# Altium integrated library Linx Technologies Antenna.IntLib: 38 symbols
Pins are listed as number, name and electrical type; pins without a type are passive.

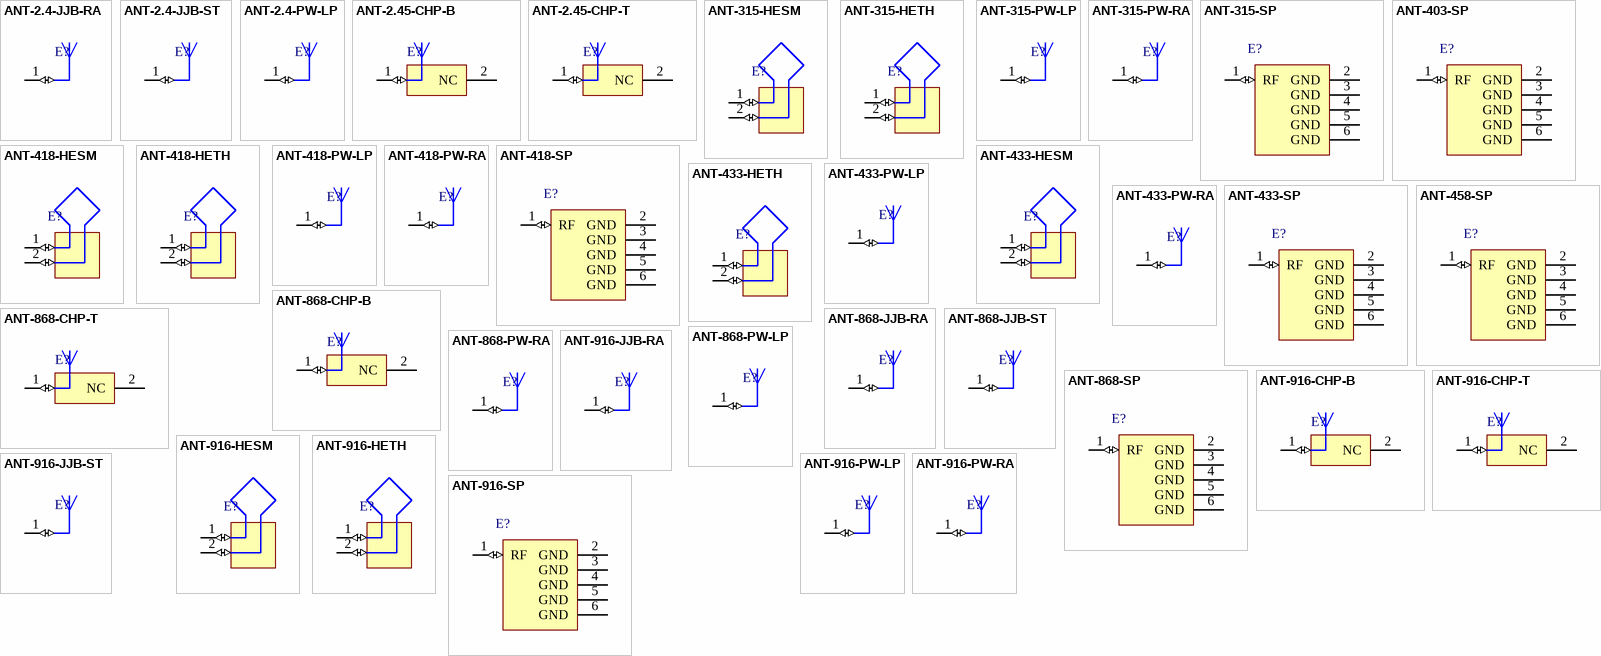
[diagram p0: symbols ANT-2.4-JJB-RA to ANT-916-SP]

## ANT-2.4-JJB-RA
designator E?
Embeddable 1/4-wave Monopole Antenna, JJB Series, 2.4GHz, 7mm Dia. Package, Right-Angle; Note1: No ground planes or traces under the antenna; DatasheetVersion: 22/07/2008; PackageVersion: 22/07/2008; PackageReference: ANT-XXX-JJB-RA; PackageDescription: Antenna, Monopole, JJB Series, Thru-Hole, Right-Angle, 7.0 x 9.0 mm (Dia.xH typ); ComponentLink1Description: Manufacturer URL; ComponentLink1URL: http://www.linxtechnologies.com/; ComponentLink2Description: Datasheet; ComponentLink2URL: http://www.antennafactor.com/documents/ANT-2.4-JJB-xx_Data_Sheet.pdf
footprint ANT-XXX-JJB-RA (Antenna, 1-Lead, Thru-Hole, Right-Angle, Body 7.0x9.0mm (Dia.xH typ))
pins: 1 FEED (io)

## ANT-2.4-JJB-ST
designator E?
Embeddable 1/4-wave Monopole Antenna, JJB Series, 2.4GHz, 7mm Dia. Package, Straight; DatasheetVersion: 22/07/2008; PackageVersion: 22/07/2008; PackageReference: ANT-XXX-JJB-ST; PackageDescription: Antenna, Monopole, JJB Series, Thru-Hole, Straight, 7.0 x 9.0 mm (Dia.xH typ); ComponentLink1Description: Manufacturer URL; ComponentLink1URL: http://www.linxtechnologies.com/; ComponentLink2Description: Datasheet; ComponentLink2URL: http://www.antennafactor.com/documents/ANT-2.4-JJB-xx_Data_Sheet.pdf
footprint ANT-XXX-JJB-ST (Antenna, 1-Lead, Thru-Hole, Straight, Body 7.0x9.0mm (Dia.xH typ))
pins: 1 FEED (io)

## ANT-2.4-PW-LP
designator E?
Reduced Height Permanent Mount 1/4-wave Monopole Antenna, LP Series, 2.4GHz, Screw-mount; DatasheetVersion: 22/07/2008; PackageVersion: 22/07/2008; PackageReference: ANT-XXX-PW-LP; PackageDescription: Antenna, LP Series, Thru-Hole, Screw-mount, 10.4 x 50.5 mm (Dia.xH typ); ComponentLink1Description: Manufacturer URL; ComponentLink1URL: http://www.linxtechnologies.com/; ComponentLink2Description: Datasheet; ComponentLink2URL: http://www.antennafactor.com/documents/ANT-2.4-PW-LP_Data_Sheet.pdf
footprint ANT-XXX-PW-LP (Antenna, 1-Lead, Thru-Hole, Screw-mount, 10.4x50.5mm (Dia.xH typ))
pins: 1 FEED (io)

## ANT-2.45-CHP-B
designator E?
1/4-wave Monopole Ultra-Compact Chip Antenna, CHP Series, 2.4GHz, Bulk; Note1: No ground planes or traces under the antenna; PCB_Layout: Complies with manufacturer's recommendation.; Note2: Pin 1 is feed terminal, Pin 2 is for physical support only.; DatasheetVersion: 14/01/2009; PackageVersion: 14/01/2009; PackageReference: ANT-2.4-CHP; PackageDescription: SMD Ceramic Antenna, CHP Series, 2.45MHz, 2-Leads, 6.5 x 2.2 x 1.0 mm Body; ComponentLink1Description: Manufacturer URL; ComponentLink1URL: http://www.linxtechnologies.com/; ComponentLink2Description: Datasheet; ComponentLink2URL: http://www.antennafactor.com/documents/ANT-xxx-CHP-x_Data_Guide.pdf
footprint ANT-2.4-CHP (SM Antenna, 2-Lead, Body 6.5x2.2x1.0mm)
pins: 1 FEED (io), 2 NC

## ANT-2.45-CHP-T
designator E?
1/4-wave Monopole Ultra-Compact Chip Antenna, CHP Series, 2.4GHz, Tape and Reel; Note1: No ground planes or traces under the antenna; PCB_Layout: Complies with manufacturer's recommendation.; Note2: Pin 1 is feed terminal, Pin 2 is for physical support only.; DatasheetVersion: 14/01/2009; PackageVersion: 14/01/2009; PackageReference: ANT-2.4-CHP; PackageDescription: SMD Ceramic Antenna, CHP Series, 2.45MHz, 2-Leads, 6.5 x 2.2 x 1.0 mm Body; ComponentLink1Description: Manufacturer URL; ComponentLink1URL: http://www.linxtechnologies.com/; ComponentLink2Description: Datasheet; ComponentLink2URL: http://www.antennafactor.com/documents/ANT-xxx-CHP-x_Data_Guide.pdf
footprint ANT-2.4-CHP (SM Antenna, 2-Lead, Body 6.5x2.2x1.0mm)
pins: 1 FEED (io), 2 NC

## ANT-315-HESM
designator E?
Embeddable 1/4-wave Monopole Antenna, HE Series, 315MHz, SM; DatasheetVersion: 2/02/2002; PackageVersion: 2/02/2002; PackageReference: ANT-xxx-HESM; PackageDescription: Helical Antenna, HE Series, SM, 2-Lead, 1.5" x 0.35" Body; ComponentLink1Description: Manufacturer URL; ComponentLink1URL: http://www.linxtechnologies.com/; ComponentLink2Description: Datasheet; ComponentLink2URL: http://www.antennafactor.com/documents/ANT-315-HESM_Data_Sheet.pdf
footprint ANT-xxx-HESM (Antenna, Helical, 2-Lead, SM, Body 1.5"x0.35")
pins: 1 High Band Feed (io) "4900 - 5900 MHz", 2 Low Band Feed (io) "2400 - 2500 MHz"

## ANT-315-HETH
designator E?
Embeddable 1/4-wave Monopole Antenna, HE Series, 315MHz, Thru-Hole; DatasheetVersion: 2/02/2002; PackageVersion: 2/02/2002; PackageReference: ANT-xxx-HETH; PackageDescription: Helical Antenna, HE Series, Thru-Hole, 2-Lead, 1.5" x 0.35" Body; ComponentLink1Description: Manufacturer URL; ComponentLink1URL: http://www.linxtechnologies.com/; ComponentLink2Description: Datasheet; ComponentLink2URL: http://www.antennafactor.com/documents/ANT-315-HETH_Data_Sheet.pdf
footprint ANT-xxx-HETH (Antenna, Helical, 2-Lead, Thru-Hole, Body 1.5"x0.35")
pins: 1 High Band Feed (io) "4900 - 5900 MHz", 2 Low Band Feed (io) "2400 - 2500 MHz"

## ANT-315-PW-LP
designator E?
Reduced Height Permanent Mount 1/4-wave Monopole Antenna, LP Series, 315MHz, Screw-mount; DatasheetVersion: 22/07/2008; PackageVersion: 22/07/2008; PackageReference: ANT-XXX-PW-LP; PackageDescription: Antenna, LP Series, Thru-Hole, Screw-mount, 10.4 x 50.5 mm (Dia.xH typ); ComponentLink1Description: Manufacturer URL; ComponentLink1URL: http://www.linxtechnologies.com/; ComponentLink2Description: Datasheet; ComponentLink2URL: http://www.antennafactor.com/documents/ANT-315-PW-LP_Data_Sheet.pdf
footprint ANT-XXX-PW-LP (Antenna, 1-Lead, Thru-Hole, Screw-mount, 10.4x50.5mm (Dia.xH typ))
pins: 1 FEED (io)

## ANT-315-PW-RA
designator E?
Articulating Permanent Mount 1/4-wave Monopole Antenna, RA Series, 315MHz, Screw-mount; DatasheetVersion: 22/07/2008; PackageVersion: 22/07/2008; PackageReference: ANT-XXX-PW-RA; PackageDescription: Antenna, RA Series, Thru-Hole, Articulating base, Screw-mount, 7.0 x 101.0 mm (Dia.xH typ); ComponentLink1Description: Manufacturer URL; ComponentLink1URL: http://www.linxtechnologies.com/; ComponentLink2Description: Datasheet; ComponentLink2URL: http://www.antennafactor.com/documents/ANT-315-PW-RA_Data_Sheet.pdf
footprint ANT-XXX-PW-RA (Antenna, 1-Lead, Thru-Hole, Articulating base, Screw-mount, 7.0x101.0mm (Dia.xH typ))
pins: 1 FEED (io)

## ANT-315-SP
designator E?
Grounded Line 1/4-wave Monopole Antenna, SP Series "The Splatch", 315MHz, SM; Note1: No ground planes or traces under the antenna; DatasheetVersion: 11/11/2008; PackageVersion: 11/11/2008; PackageReference: ANT-XXX-SP; PackageDescription: Antenna, Splatch, SP Series, 6-Lead, SM, 27.94 x 13.7 x 1.5 mm Body; ComponentLink1Description: Manufacturer URL; ComponentLink1URL: http://www.linxtechnologies.com/; ComponentLink2Description: Datasheet; ComponentLink2URL: http://www.antennafactor.com/documents/ANT-315-SP_Data_Sheet.pdf
footprint ANT-XXX-SP (Antenna, 6-Lead, SM, Body 27.94x13.7x1.5mm)
pins: 1 RF (io), 2 GND (power), 3 GND (power), 4 GND (power), 5 GND (power), 6 GND (power)

## ANT-403-SP
designator E?
Grounded Line 1/4-wave Monopole Antenna, SP Series "The Splatch", 403MHz, SM; Note1: No ground planes or traces under the antenna; DatasheetVersion: 11/11/2008; PackageVersion: 11/11/2008; PackageReference: ANT-XXX-SP; PackageDescription: Antenna, Splatch, SP Series, 6-Lead, SM, 27.94 x 13.7 x 1.5 mm Body; ComponentLink1Description: Manufacturer URL; ComponentLink1URL: http://www.linxtechnologies.com/; ComponentLink2Description: Datasheet; ComponentLink2URL: http://www.antennafactor.com/documents/ANT-403-SP_Data_Sheet.pdf
footprint ANT-XXX-SP (Antenna, 6-Lead, SM, Body 27.94x13.7x1.5mm)
pins: 1 RF (io), 2 GND (power), 3 GND (power), 4 GND (power), 5 GND (power), 6 GND (power)

## ANT-418-HESM
designator E?
Embeddable 1/4-wave Monopole Antenna, HE Series, 418MHz, SM; DatasheetVersion: 2/02/2002; PackageVersion: 2/02/2002; PackageReference: ANT-xxx-HESM; PackageDescription: Helical Antenna, HE Series, SM, 2-Lead, 1.5" x 0.35" Body; ComponentLink1Description: Manufacturer URL; ComponentLink1URL: http://www.linxtechnologies.com/; ComponentLink2Description: Datasheet; ComponentLink2URL: http://www.antennafactor.com/documents/ANT-418-HESM_Data_Sheet.pdf
footprint ANT-xxx-HESM (Antenna, Helical, 2-Lead, SM, Body 1.5"x0.35")
pins: 1 High Band Feed (io) "4900 - 5900 MHz", 2 Low Band Feed (io) "2400 - 2500 MHz"

## ANT-418-HETH
designator E?
Embeddable 1/4-wave Monopole Antenna, HE Series, 418MHz, Thru-Hole; DatasheetVersion: 2/02/2002; PackageVersion: 2/02/2002; PackageReference: ANT-xxx-HETH; PackageDescription: Helical Antenna, HE Series, Thru-Hole, 2-Lead, 1.5" x 0.35" Body; ComponentLink1Description: Manufacturer URL; ComponentLink1URL: http://www.linxtechnologies.com/; ComponentLink2Description: Datasheet; ComponentLink2URL: http://www.antennafactor.com/documents/ANT-418-HETH_Data_Sheet.pdf
footprint ANT-xxx-HETH (Antenna, Helical, 2-Lead, Thru-Hole, Body 1.5"x0.35")
pins: 1 High Band Feed (io) "4900 - 5900 MHz", 2 Low Band Feed (io) "2400 - 2500 MHz"

## ANT-418-PW-LP
designator E?
Reduced Height Permanent Mount 1/4-wave Monopole Antenna, LP Series, 418MHz, Screw-mount; DatasheetVersion: 22/07/2008; PackageVersion: 22/07/2008; PackageReference: ANT-XXX-PW-LP; PackageDescription: Antenna, LP Series, Thru-Hole, Screw-mount, 10.4 x 50.5 mm (Dia.xH typ); ComponentLink1Description: Manufacturer URL; ComponentLink1URL: http://www.linxtechnologies.com/; ComponentLink2Description: Datasheet; ComponentLink2URL: http://www.antennafactor.com/documents/ANT-418-PW-LP_Data_Sheet.pdf
footprint ANT-XXX-PW-LP (Antenna, 1-Lead, Thru-Hole, Screw-mount, 10.4x50.5mm (Dia.xH typ))
pins: 1 FEED (io)

## ANT-418-PW-RA
designator E?
Articulating Permanent Mount 1/4-wave Monopole Antenna, RA Series, 418MHz, Screw-mount; DatasheetVersion: 22/07/2008; PackageVersion: 22/07/2008; PackageReference: ANT-XXX-PW-RA; PackageDescription: Antenna, RA Series, Thru-Hole, Articulating base, Screw-mount, 7.0 x 101.0 mm (Dia.xH typ); ComponentLink1Description: Manufacturer URL; ComponentLink1URL: http://www.linxtechnologies.com/; ComponentLink2Description: Datasheet; ComponentLink2URL: http://www.antennafactor.com/documents/ANT-418-PW-RA_Data_Sheet.pdf
footprint ANT-XXX-PW-RA (Antenna, 1-Lead, Thru-Hole, Articulating base, Screw-mount, 7.0x101.0mm (Dia.xH typ))
pins: 1 FEED (io)

## ANT-418-SP
designator E?
Grounded Line 1/4-wave Monopole Antenna, SP Series "The Splatch", 418MHz, SM; Note1: No ground planes or traces under the antenna; DatasheetVersion: 11/11/2008; PackageVersion: 11/11/2008; PackageReference: ANT-XXX-SP; PackageDescription: Antenna, Splatch, SP Series, 6-Lead, SM, 27.94 x 13.7 x 1.5 mm Body; ComponentLink1Description: Manufacturer URL; ComponentLink1URL: http://www.linxtechnologies.com/; ComponentLink2Description: Datasheet; ComponentLink2URL: http://www.antennafactor.com/documents/ANT-418-SP_Data_Sheet.pdf
footprint ANT-XXX-SP (Antenna, 6-Lead, SM, Body 27.94x13.7x1.5mm)
pins: 1 RF (io), 2 GND (power), 3 GND (power), 4 GND (power), 5 GND (power), 6 GND (power)

## ANT-433-HESM
designator E?
Embeddable 1/4-wave Monopole Antenna, HE Series, 433MHz, SM; DatasheetVersion: 2/02/2002; PackageVersion: 2/02/2002; PackageReference: ANT-xxx-HESM; PackageDescription: Helical Antenna, HE Series, SM, 2-Lead, 1.5" x 0.35" Body; ComponentLink1Description: Manufacturer URL; ComponentLink1URL: http://www.linxtechnologies.com/; ComponentLink2Description: Datasheet; ComponentLink2URL: http://www.antennafactor.com/documents/ANT-433-HESM_Data_Sheet.pdf
footprint ANT-xxx-HESM (Antenna, Helical, 2-Lead, SM, Body 1.5"x0.35")
pins: 1 High Band Feed (io) "4900 - 5900 MHz", 2 Low Band Feed (io) "2400 - 2500 MHz"

## ANT-433-HETH
designator E?
Embeddable 1/4-wave Monopole Antenna, HE Series, 433MHz, Thru-Hole; DatasheetVersion: 2/02/2002; PackageVersion: 2/02/2002; PackageReference: ANT-xxx-HETH; PackageDescription: Helical Antenna, HE Series, Thru-Hole, 2-Lead, 1.5" x 0.35" Body; ComponentLink1Description: Manufacturer URL; ComponentLink1URL: http://www.linxtechnologies.com/; ComponentLink2Description: Datasheet; ComponentLink2URL: http://www.antennafactor.com/documents/ANT-433-HETH_Data_Sheet.pdf
footprint ANT-xxx-HETH (Antenna, Helical, 2-Lead, Thru-Hole, Body 1.5"x0.35")
pins: 1 High Band Feed (io) "4900 - 5900 MHz", 2 Low Band Feed (io) "2400 - 2500 MHz"

## ANT-433-PW-LP
designator E?
Reduced Height Permanent Mount 1/4-wave Monopole Antenna, LP Series, 433MHz, Screw-mount; DatasheetVersion: 22/07/2008; PackageVersion: 22/07/2008; PackageReference: ANT-XXX-PW-LP; PackageDescription: Antenna, LP Series, Thru-Hole, Screw-mount, 10.4 x 50.5 mm (Dia.xH typ); ComponentLink1Description: Manufacturer URL; ComponentLink1URL: http://www.linxtechnologies.com/; ComponentLink2Description: Datasheet; ComponentLink2URL: http://www.antennafactor.com/documents/ANT-433-PW-LP_Data_Sheet.pdf
footprint ANT-XXX-PW-LP (Antenna, 1-Lead, Thru-Hole, Screw-mount, 10.4x50.5mm (Dia.xH typ))
pins: 1 FEED (io)

## ANT-433-PW-RA
designator E?
Articulating Permanent Mount 1/4-wave Monopole Antenna, RA Series, 433MHz, Screw-mount; DatasheetVersion: 22/07/2008; PackageVersion: 22/07/2008; PackageReference: ANT-XXX-PW-RA; PackageDescription: Antenna, RA Series, Thru-Hole, Articulating base, Screw-mount, 7.0 x 101.0 mm (Dia.xH typ); ComponentLink1Description: Manufacturer URL; ComponentLink1URL: http://www.linxtechnologies.com/; ComponentLink2Description: Datasheet; ComponentLink2URL: http://www.antennafactor.com/documents/ANT-433-PW-RA_Data_Sheet.pdf
footprint ANT-XXX-PW-RA (Antenna, 1-Lead, Thru-Hole, Articulating base, Screw-mount, 7.0x101.0mm (Dia.xH typ))
pins: 1 FEED (io)

## ANT-433-SP
designator E?
Grounded Line 1/4-wave Monopole Antenna, SP Series "The Splatch", 433MHz, SM; Note1: No ground planes or traces under the antenna; DatasheetVersion: 11/11/2008; PackageVersion: 11/11/2008; PackageReference: ANT-XXX-SP; PackageDescription: Antenna, Splatch, SP Series, 6-Lead, SM, 27.94 x 13.7 x 1.5 mm Body; ComponentLink1Description: Manufacturer URL; ComponentLink1URL: http://www.linxtechnologies.com/; ComponentLink2Description: Datasheet; ComponentLink2URL: http://www.antennafactor.com/documents/ANT-433-SP_Data_Sheet.pdf
footprint ANT-XXX-SP (Antenna, 6-Lead, SM, Body 27.94x13.7x1.5mm)
pins: 1 RF (io), 2 GND (power), 3 GND (power), 4 GND (power), 5 GND (power), 6 GND (power)

## ANT-458-SP
designator E?
Grounded Line 1/4-wave Monopole Antenna, SP Series "The Splatch", 458MHz, SM; Note1: No ground planes or traces under the antenna; DatasheetVersion: 11/11/2008; PackageVersion: 11/11/2008; PackageReference: ANT-XXX-SP; PackageDescription: Antenna, Splatch, SP Series, 6-Lead, SM, 27.94 x 13.7 x 1.5 mm Body; ComponentLink1Description: Manufacturer URL; ComponentLink1URL: http://www.linxtechnologies.com/; ComponentLink2Description: Datasheet; ComponentLink2URL: http://www.antennafactor.com/documents/ANT-458-SP_Data_Sheet.pdf
footprint ANT-XXX-SP (Antenna, 6-Lead, SM, Body 27.94x13.7x1.5mm)
pins: 1 RF (io), 2 GND (power), 3 GND (power), 4 GND (power), 5 GND (power), 6 GND (power)

## ANT-868-CHP-B
designator E?
1/4-wave Monopole Ultra-Compact Chip Antenna, CHP Series, 868MHz, Bulk; Note1: No ground planes or traces under the antenna; PCB_Layout: Complies with manufacturer's recommendation.; Note2: Pin 1 is feed terminal, Pin 2 is for physical support only.; DatasheetVersion: 14/01/2009; PackageVersion: 14/01/2009; PackageReference: ANT-868-916-CHP; PackageDescription: SMD Ceramic Antenna, CHP Series, 868/916MHz, 2-Leads, 16.0 x 3.0 x 1.7 mm Body; ComponentLink1Description: Manufacturer URL; ComponentLink1URL: http://www.linxtechnologies.com/; ComponentLink2Description: Datasheet; ComponentLink2URL: http://www.antennafactor.com/documents/ANT-xxx-CHP-x_Data_Guide.pdf
footprint ANT-868-916-CHP (SM Antenna, 2-Lead, Body 16.0x3.0x1.7mm)
pins: 1 FEED (io), 2 NC

## ANT-868-CHP-T
designator E?
1/4-wave Monopole Ultra-Compact Chip Antenna, CHP Series, 868MHz, Tape and Reel; Note1: No ground planes or traces under the antenna; PCB_Layout: Complies with manufacturer's recommendation.; Note2: Pin 1 is feed terminal, Pin 2 is for physical support only.; DatasheetVersion: 14/01/2009; PackageVersion: 14/01/2009; PackageReference: ANT-868-916-CHP; PackageDescription: SMD Ceramic Antenna, CHP Series, 868/916MHz, 2-Leads, 16.0 x 3.0 x 1.7 mm Body; ComponentLink1Description: Manufacturer URL; ComponentLink1URL: http://www.linxtechnologies.com/; ComponentLink2Description: Datasheet; ComponentLink2URL: http://www.antennafactor.com/documents/ANT-xxx-CHP-x_Data_Guide.pdf
footprint ANT-868-916-CHP (SM Antenna, 2-Lead, Body 16.0x3.0x1.7mm)
pins: 1 FEED (io), 2 NC

## ANT-868-JJB-RA
designator E?
Embeddable 1/4-wave Monopole Antenna, JJB Series, 868MHz, 7mm Dia. Package, Right-Angle; Note1: No ground planes or traces under the antenna; DatasheetVersion: 22/07/2008; PackageVersion: 22/07/2008; PackageReference: ANT-XXX-JJB-RA; PackageDescription: Antenna, Monopole, JJB Series, Thru-Hole, Right-Angle, 7.0 x 9.0 mm (Dia.xH typ); ComponentLink1Description: Manufacturer URL; ComponentLink1URL: http://www.linxtechnologies.com/; ComponentLink2Description: Datasheet; ComponentLink2URL: http://www.antennafactor.com/documents/ANT-868-JJB-xx_Data_Sheet.pdf
footprint ANT-XXX-JJB-RA (Antenna, 1-Lead, Thru-Hole, Right-Angle, Body 7.0x9.0mm (Dia.xH typ))
pins: 1 FEED (io)

## ANT-868-JJB-ST
designator E?
Embeddable 1/4-wave Monopole Antenna, JJB Series, 868MHz, 7mm Dia. Package, Straight; DatasheetVersion: 22/07/2008; PackageVersion: 22/07/2008; PackageReference: ANT-XXX-JJB-ST; PackageDescription: Antenna, Monopole, JJB Series, Thru-Hole, Straight, 7.0 x 9.0 mm (Dia.xH typ); ComponentLink1Description: Manufacturer URL; ComponentLink1URL: http://www.linxtechnologies.com/; ComponentLink2Description: Datasheet; ComponentLink2URL: http://www.antennafactor.com/documents/ANT-868-JJB-xx_Data_Sheet.pdf
footprint ANT-XXX-JJB-ST (Antenna, 1-Lead, Thru-Hole, Straight, Body 7.0x9.0mm (Dia.xH typ))
pins: 1 FEED (io)

## ANT-868-PW-LP
designator E?
Reduced Height Permanent Mount 1/4-wave Monopole Antenna, LP Series, 868MHz, Screw-mount; DatasheetVersion: 22/07/2008; PackageVersion: 22/07/2008; PackageReference: ANT-XXX-PW-LP; PackageDescription: Antenna, LP Series, Thru-Hole, Screw-mount, 10.4 x 50.5 mm (Dia.xH typ); ComponentLink1Description: Manufacturer URL; ComponentLink1URL: http://www.linxtechnologies.com/; ComponentLink2Description: Datasheet; ComponentLink2URL: http://www.antennafactor.com/documents/ANT-868-PW-LP_Data_Sheet.pdf
footprint ANT-XXX-PW-LP (Antenna, 1-Lead, Thru-Hole, Screw-mount, 10.4x50.5mm (Dia.xH typ))
pins: 1 FEED (io)

## ANT-868-PW-RA
designator E?
Articulating Permanent Mount 1/4-wave Monopole Antenna, RA Series, 868MHz, Screw-mount; DatasheetVersion: 22/07/2008; PackageVersion: 22/07/2008; PackageReference: ANT-868-PW-RA; PackageDescription: Antenna, RA Series, Thru-Hole, Articulating base, Screw-mount, 7.0 x 68.5 mm (Dia.xH typ); ComponentLink1Description: Manufacturer URL; ComponentLink1URL: http://www.linxtechnologies.com/; ComponentLink2Description: Datasheet; ComponentLink2URL: http://www.antennafactor.com/documents/ANT-868-PW-RA_Data_Sheet.pdf
footprint ANT-868-PW-RA (Antenna, 1-Lead, Thru-Hole, Articulating base, Screw-mount, 7.0x68.5mm (Dia.xH typ))
pins: 1 FEED (io)

## ANT-868-SP
designator E?
Grounded Line 1/4-wave Monopole Antenna, SP Series "The Splatch", 868MHz, SM; Note1: No ground planes or traces under the antenna; DatasheetVersion: 11/11/2008; PackageVersion: 11/11/2008; PackageReference: ANT-XXX-SP; PackageDescription: Antenna, Splatch, SP Series, 6-Lead, SM, 27.94 x 13.7 x 1.5 mm Body; ComponentLink1Description: Manufacturer URL; ComponentLink1URL: http://www.linxtechnologies.com/; ComponentLink2Description: Datasheet; ComponentLink2URL: http://www.antennafactor.com/documents/ANT-868-SP_Data_Sheet.pdf
footprint ANT-XXX-SP (Antenna, 6-Lead, SM, Body 27.94x13.7x1.5mm)
pins: 1 RF (io), 2 GND (power), 3 GND (power), 4 GND (power), 5 GND (power), 6 GND (power)

## ANT-916-CHP-B
designator E?
1/4-wave Monopole Ultra-Compact Chip Antenna, CHP Series, 916MHz, Bulk; Note1: No ground planes or traces under the antenna; PCB_Layout: Complies with manufacturer's recommendation.; Note2: Pin 1 is feed terminal, Pin 2 is for physical support only.; DatasheetVersion: 14/01/2009; PackageVersion: 14/01/2009; PackageReference: ANT-868-916-CHP; PackageDescription: SMD Ceramic Antenna, CHP Series, 868/916MHz, 2-Leads, 16.0 x 3.0 x 1.7 mm Body; ComponentLink1Description: Manufacturer URL; ComponentLink1URL: http://www.linxtechnologies.com/; ComponentLink2Description: Datasheet; ComponentLink2URL: http://www.antennafactor.com/documents/ANT-xxx-CHP-x_Data_Guide.pdf
footprint ANT-868-916-CHP (SM Antenna, 2-Lead, Body 16.0x3.0x1.7mm)
pins: 1 FEED (io), 2 NC

## ANT-916-CHP-T
designator E?
1/4-wave Monopole Ultra-Compact Chip Antenna, CHP Series, 916MHz, Tape and Reel; Note1: No ground planes or traces under the antenna; PCB_Layout: Complies with manufacturer's recommendation.; Note2: Pin 1 is feed terminal, Pin 2 is for physical support only.; DatasheetVersion: 14/01/2009; PackageVersion: 14/01/2009; PackageReference: ANT-868-916-CHP; PackageDescription: SMD Ceramic Antenna, CHP Series, 868/916MHz, 2-Leads, 16.0 x 3.0 x 1.7 mm Body; ComponentLink1Description: Manufacturer URL; ComponentLink1URL: http://www.linxtechnologies.com/; ComponentLink2Description: Datasheet; ComponentLink2URL: http://www.antennafactor.com/documents/ANT-xxx-CHP-x_Data_Guide.pdf
footprint ANT-868-916-CHP (SM Antenna, 2-Lead, Body 16.0x3.0x1.7mm)
pins: 1 FEED (io), 2 NC

## ANT-916-HESM
designator E?
Embeddable 1/4-wave Monopole Antenna, HE Series, 916MHz, SM; DatasheetVersion: 2/02/2002; PackageVersion: 2/02/2002; PackageReference: ANT-916-HESM; PackageDescription: Helical Antenna, HE Series, SM, 2-Lead, 1.0" x 0.35" Body; ComponentLink1Description: Manufacturer URL; ComponentLink1URL: http://www.linxtechnologies.com/; ComponentLink2Description: Datasheet; ComponentLink2URL: http://www.antennafactor.com/documents/ANT-916-HESM_Data_Sheet.pdf
footprint ANT-916-HESM (Antenna, Helical, 2-Lead, SM, Body 1.0"x0.35")
pins: 1 High Band Feed (io) "4900 - 5900 MHz", 2 Low Band Feed (io) "2400 - 2500 MHz"

## ANT-916-HETH
designator E?
Embeddable 1/4-wave Monopole Antenna, HE Series, 916MHz, Thru-Hole; DatasheetVersion: 2/02/2002; PackageVersion: 2/02/2002; PackageReference: ANT-916-HETH; PackageDescription: Helical Antenna, HE Series, Thru-Hole, 2-Lead, 1.0" x 0.35" Body; ComponentLink1Description: Manufacturer URL; ComponentLink1URL: http://www.linxtechnologies.com/; ComponentLink2Description: Datasheet; ComponentLink2URL: http://www.antennafactor.com/documents/ANT-916-HETH_Data_Sheet.pdf
footprint ANT-916-HETH (Antenna, Helical, 2-Lead, Thru-Hole, Body 1.0"x0.35")
pins: 1 High Band Feed (io) "4900 - 5900 MHz", 2 Low Band Feed (io) "2400 - 2500 MHz"

## ANT-916-JJB-RA
designator E?
Embeddable 1/4-wave Monopole Antenna, JJB Series, 916MHz, 7mm Dia. Package, Right-Angle; Note1: No ground planes or traces under the antenna; DatasheetVersion: 22/07/2008; PackageVersion: 22/07/2008; PackageReference: ANT-XXX-JJB-RA; PackageDescription: Antenna, Monopole, JJB Series, Thru-Hole, Right-Angle, 7.0 x 9.0 mm (Dia.xH typ); ComponentLink1Description: Manufacturer URL; ComponentLink1URL: http://www.linxtechnologies.com/; ComponentLink2Description: Datasheet; ComponentLink2URL: http://www.antennafactor.com/documents/ANT-916-JJB-xx_Data_Sheet.pdf
footprint ANT-XXX-JJB-RA (Antenna, 1-Lead, Thru-Hole, Right-Angle, Body 7.0x9.0mm (Dia.xH typ))
pins: 1 FEED (io)

## ANT-916-JJB-ST
designator E?
Embeddable 1/4-wave Monopole Antenna, JJB Series, 916MHz, 7mm Dia. Package, Straight; DatasheetVersion: 22/07/2008; PackageVersion: 22/07/2008; PackageReference: ANT-XXX-JJB-ST; PackageDescription: Antenna, Monopole, JJB Series, Thru-Hole, Straight, 7.0 x 9.0 mm (Dia.xH typ); ComponentLink1Description: Manufacturer URL; ComponentLink1URL: http://www.linxtechnologies.com/; ComponentLink2Description: Datasheet; ComponentLink2URL: http://www.antennafactor.com/documents/ANT-916-JJB-xx_Data_Sheet.pdf
footprint ANT-XXX-JJB-ST (Antenna, 1-Lead, Thru-Hole, Straight, Body 7.0x9.0mm (Dia.xH typ))
pins: 1 FEED (io)

## ANT-916-PW-LP
designator E?
Reduced Height Permanent Mount 1/4-wave Monopole Antenna, LP Series, 916MHz, Screw-mount; DatasheetVersion: 22/07/2008; PackageVersion: 22/07/2008; PackageReference: ANT-XXX-PW-LP; PackageDescription: Antenna, LP Series, Thru-Hole, Screw-mount, 10.4 x 50.5 mm (Dia.xH typ); ComponentLink1Description: Manufacturer URL; ComponentLink1URL: http://www.linxtechnologies.com/; ComponentLink2Description: Datasheet; ComponentLink2URL: http://www.antennafactor.com/documents/ANT-916-PW-LP_Data_Sheet.pdf
footprint ANT-XXX-PW-LP (Antenna, 1-Lead, Thru-Hole, Screw-mount, 10.4x50.5mm (Dia.xH typ))
pins: 1 FEED (io)

## ANT-916-PW-RA
designator E?
Articulating Permanent Mount 1/4-wave Monopole Antenna, RA Series, 916MHz, Screw-mount; DatasheetVersion: 22/07/2008; PackageVersion: 22/07/2008; PackageReference: ANT-868-PW-RA; PackageDescription: Antenna, RA Series, Thru-Hole, Articulating base, Screw-mount, 7.0 x 68.5 mm (Dia.xH typ); ComponentLink1Description: Manufacturer URL; ComponentLink1URL: http://www.linxtechnologies.com/; ComponentLink2Description: Datasheet; ComponentLink2URL: http://www.antennafactor.com/documents/ANT-916-PW-RA_Data_Sheet.pdf
footprint ANT-868-PW-RA (Antenna, 1-Lead, Thru-Hole, Articulating base, Screw-mount, 7.0x68.5mm (Dia.xH typ))
pins: 1 FEED (io)

## ANT-916-SP
designator E?
Grounded Line 1/4-wave Monopole Antenna, SP Series "The Splatch", 916MHz, SM; Note1: No ground planes or traces under the antenna; DatasheetVersion: 11/11/2008; PackageVersion: 11/11/2008; PackageReference: ANT-XXX-SP; PackageDescription: Antenna, Splatch, SP Series, 6-Lead, SM, 27.94 x 13.7 x 1.5 mm Body; ComponentLink1Description: Manufacturer URL; ComponentLink1URL: http://www.linxtechnologies.com/; ComponentLink2Description: Datasheet; ComponentLink2URL: http://www.antennafactor.com/documents/ANT-916-SP_Data_Sheet.pdf
footprint ANT-XXX-SP (Antenna, 6-Lead, SM, Body 27.94x13.7x1.5mm)
pins: 1 RF (io), 2 GND (power), 3 GND (power), 4 GND (power), 5 GND (power), 6 GND (power)